# EAGLE library part TRHEI304-2 (library #PaJa_30_scr)
Transformator - do DPS - 2,6 VA - 2x sek.
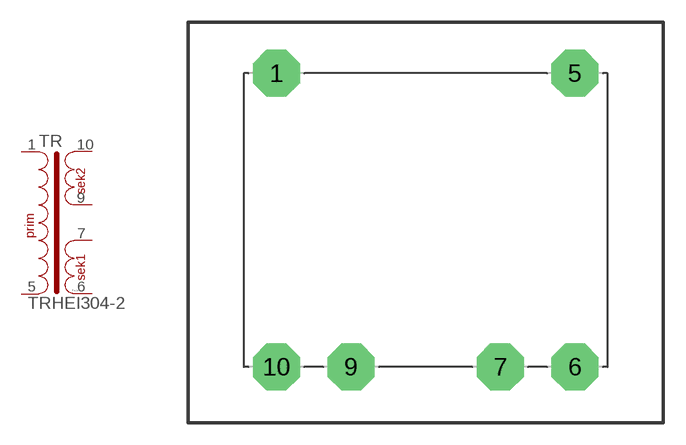
[diagram p22: symbol with the pads of TRHEI304; footprint TRHEI304]

Designator prefix TR

## TRHEI304-2  [TRHEI304]
1  P1  pas
5  P2  pas
6  S1-1  pas
7  S1-2  pas
9  S2-1  pas
10  S2-2  pas

## Footprint TRHEI304 (pad centres in mm)
drill 1.016 pad 3.2 octagon: 1 -10.16,10.16; 5 10.16,10.16; 6 10.16,-9.842; 7 5.08,-9.842; 9 -5.08,-9.842; 10 -10.16,-9.842